# EAGLE library part MH-Z19 (library mh-z19)
MH-Z19 - CO2 NDIR SENSOR
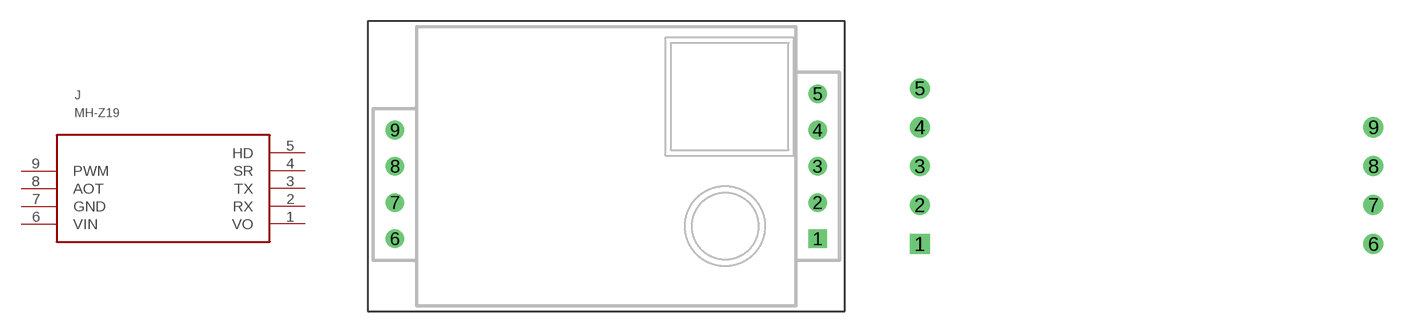
[diagram p0: symbol with the pads of MH-Z19; footprints MH-Z19, MH-Z19-REV]

Designator prefix J

## MH-Z19-CO2-NDIR-SENSOR  [MH-Z19]
1  VO  pwr
2  RX  in
3  TX  out
4  SR  nc
5  HD  in
6  VIN  pwr
7  GND  pwr
8  AOT  nc
9  PWM  out

## MH-Z19  [MH-Z19-REV]
Pads as for MH-Z19

## Footprint MH-Z19 (pad centres in mm)
MH-Z19 CO2 NDIR SENSOR
drill 0.8 square: 1 29.591,0
drill 0.8: 2 29.591,2.54; 3 29.591,5.08; 4 29.591,7.62; 5 29.591,10.16; 6 0,0; 7 0,2.54; 8 0,5.08; 9 0,7.62

## Footprint MH-Z19-REV (pad centres in mm)
MH-Z19B Upside down
drill 0.8 square: 1 9.779,-13.97
drill 0.8: 2 9.779,-11.43; 3 9.779,-8.89; 4 9.779,-6.35; 5 9.779,-3.81; 6 39.37,-13.97; 7 39.37,-11.43; 8 39.37,-8.89; 9 39.37,-6.35